# EAGLE library part PVN012SPBF (library Neel)
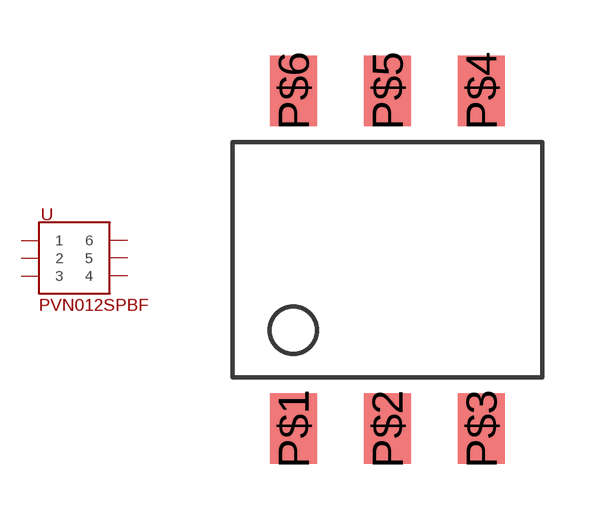
[diagram p64: symbol with the pads of SMD-6; footprint SMD-6]

Designator prefix -

## PVN012SPBF  [SMD-6]
P$1  1
P$2  2
P$3  3
P$4  4
P$5  5
P$6  6

## Footprint SMD-6 (pad centres in mm)
smd 1.27 x 1.905: P$1 -2.54,-4.572; P$2 0,-4.572; P$3 2.54,-4.572; P$4 2.54,4.572; P$5 0,4.572; P$6 -2.54,4.572